# Altium schematic symbol library ATMEGA16U2-MU.SchLib: 1 symbol
Pins are listed as number, name and electrical type; pins without a type are passive.

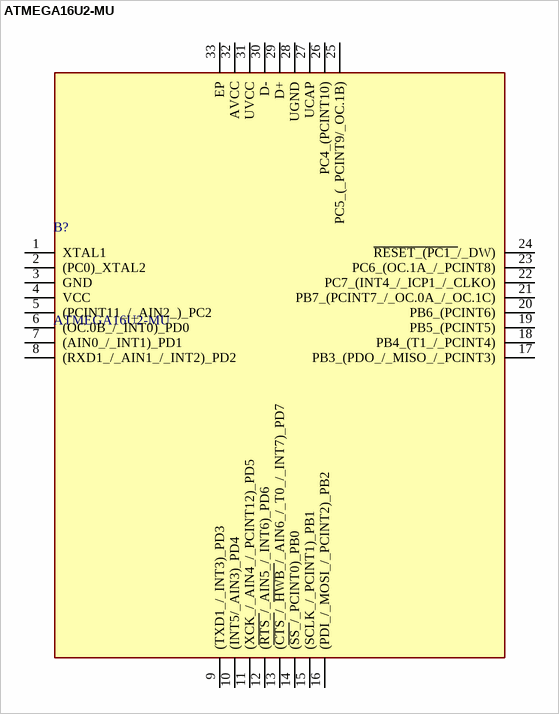
[diagram p0: symbol ATMEGA16U2-MU]

## ATMEGA16U2-MU
designator B?
8-bit Microcontrollers - MCU AVR USB 8K FLASH AVR USB 16K FLASH; Manufacturer_Name: Microchip; Geometry.Height: 1mm; Mouser Part Number: 556-ATMEGA16U2-MU; Mouser Price/Stock: https://www.mouser.co.uk/ProductDetail/Microchip-Technology/ATMEGA16U2-MU?qs=JV7lzlMm3yIZlyznMyuPNA%3D%3D; Manufacturer_Part_Number: ATMEGA16U2-MU; Datasheet Link: http://ww1.microchip.com/downloads/en/DeviceDoc/doc7799.pdf
footprint QFN50P500X500X100-33N-D
pins: 1 XTAL1, 2 (PC0)_XTAL2, 3 GND, 4 VCC, 5 (PCINT11_/_AIN2_)_PC2, 6 (OC.0B_/_INT0)_PD0, 7 (AIN0_/_INT1)_PD1, 8 (RXD1_/_AIN1_/_INT2)_PD2, 9 (TXD1_/_INT3)_PD3, 10 (INT5/_AIN3)_PD4, 11 (XCK_/_AIN4_/_PCINT12)_PD5, 12 (~{RTS_}/_AIN5_/_INT6)_PD6, 13 (~{CTS_}/_~{HWB_}/_AIN6_/_T0_/_INT7)_PD7, 14 (~{SS_}/_PCINT0)_PB0, 15 (SCLK_/_PCINT1)_PB1, 16 (PDI_/_MOSI_/_PCINT2)_PB2, 17 PB3_(PDO_/_MISO_/_PCINT3), 18 PB4_(T1_/_PCINT4), 19 PB5_(PCINT5), 20 PB6_(PCINT6), 21 PB7_(PCINT7_/_OC.0A_/_OC.1C), 22 PC7_(INT4_/_ICP1_/_CLKO), 23 PC6_(OC.1A_/_PCINT8), 24 ~{RESET_(PC1_}/_DW), 25 PC5_(_PCINT9/_OC.1B), 26 PC4_(PCINT10), 27 UCAP, 28 UGND, 29 D+, 30 D-, 31 UVCC, 32 AVCC, 33 EP